# EAGLE library part AK700/6-5.0-V-GREEN (library con-ptr-AK700)
PCB Screw Terminal AK700, 6-pin 5.0 pitch
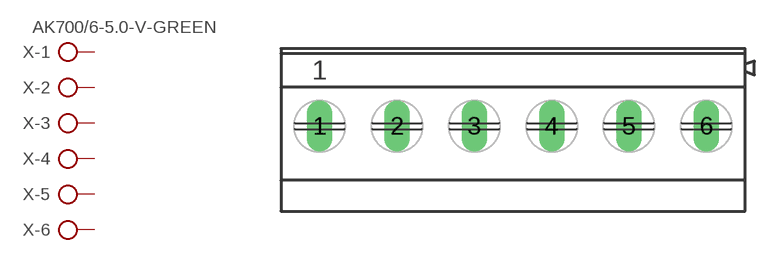
[diagram p0: symbol with the pads of AK700/6-5.0-V-GREEN; footprint AK700/6-5.0-V-GREEN]

Designator prefix X; gates -1=KLV -2=KL -3=KL -4=KL -5=KL -6=KL

## AK700/6-5.0-V-GREEN (MF: PTR Hartmann; MPN: 50700060201)  [AK700/6-5.0-V-GREEN]
1  -1:KL  pas
2  -2:KL  pas
3  -3:KL  pas
4  -4:KL  pas
5  -5:KL  pas
6  -6:KL  pas

## Footprint AK700/6-5.0-V-GREEN (pad centres in mm)
PCB Screw Terminal AK700, 6-pin 5.0 pitch
drill 1.1 long: 1 -12.5,0; 2 -7.5,0; 3 -2.5,0; 4 2.5,0; 5 7.5,0; 6 12.5,0